# Altium footprint library Alcetronics_Devices.PcbLib: 71 footprints (part 3 of 5)
Each footprint in its own frame and in the unit in brackets; x right, y up, seen from the top. Pads: shape width x height; smd on the part's side, far side on the other; paste and mask are expansions set on the pad; w line width, h text height; cw(c..) or ccw(c..) is an arc to the next point about the centre after c.
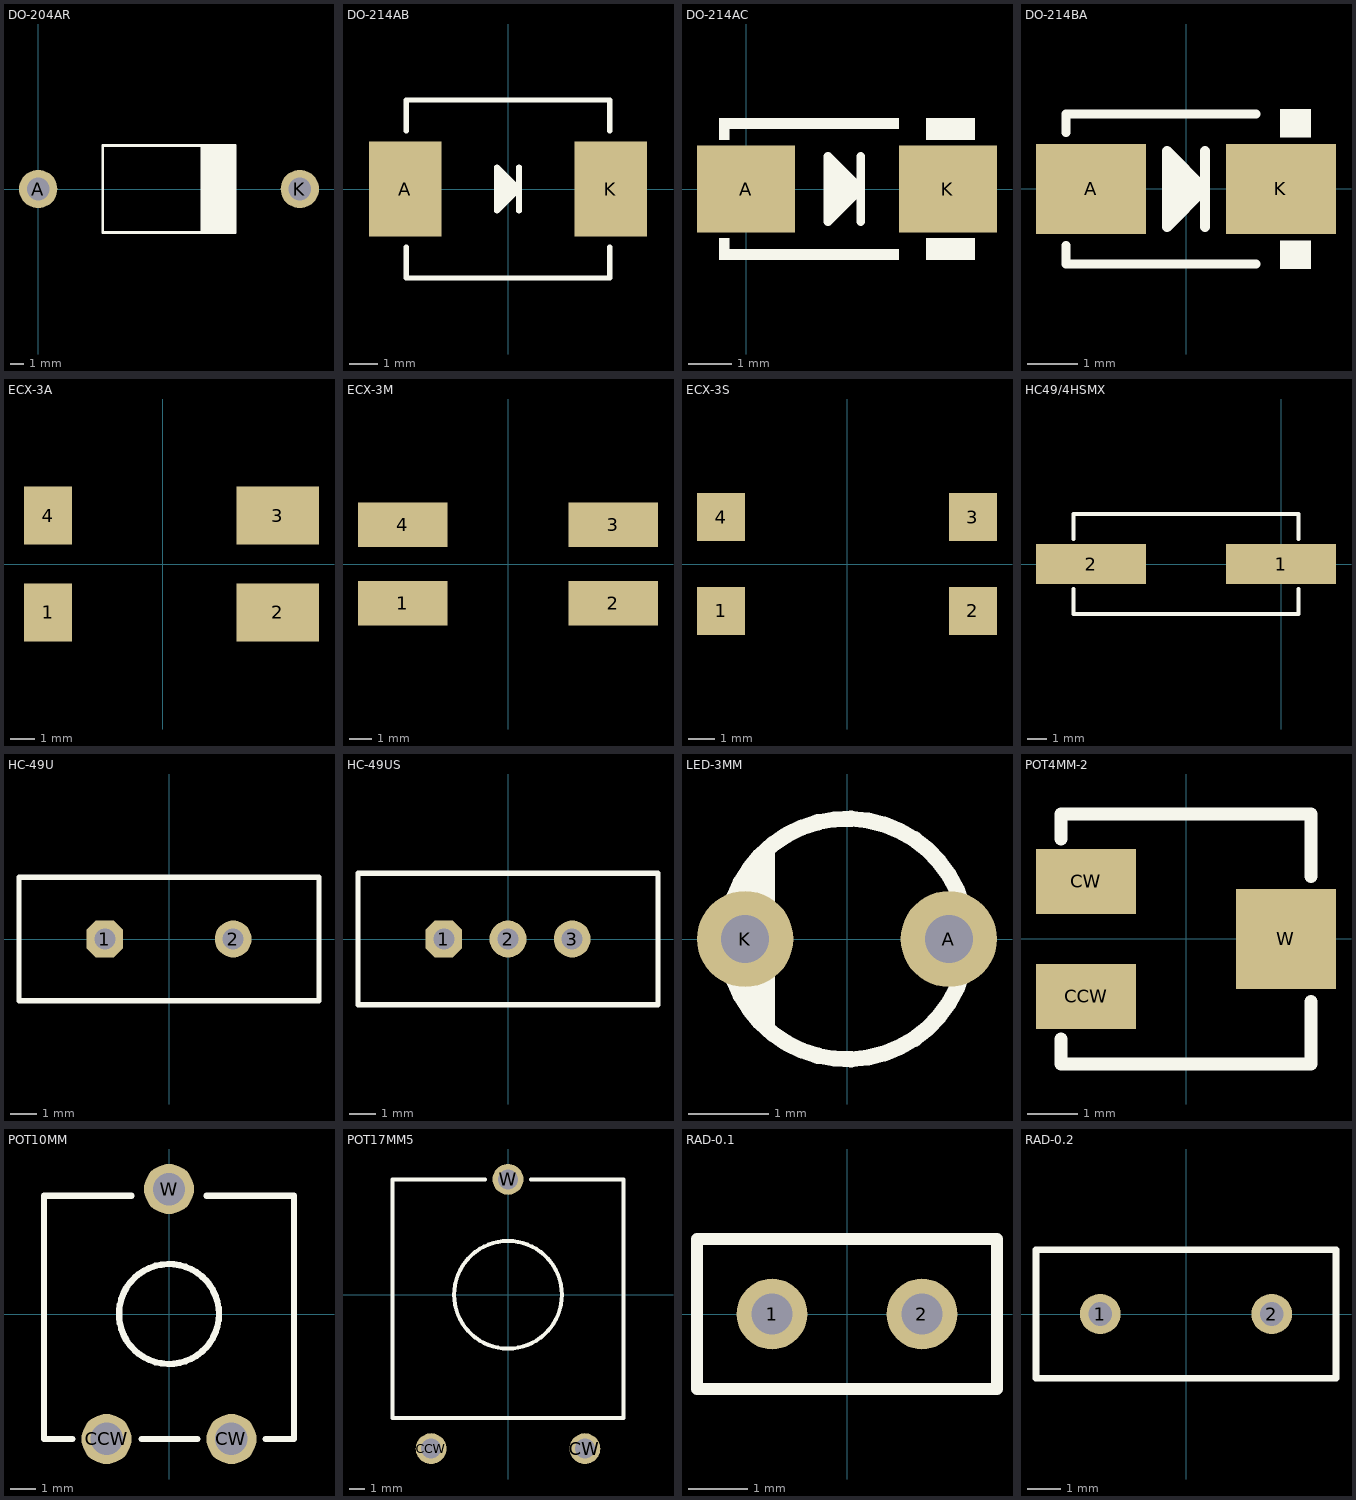
[diagram p2: the footprints below, top view; thin cyan lines are the x and y axes]

## DO-204AR [mil] "Diode, Axial; Body 9.5 x 6.4 mm (LxDia. max), Lead Dia. 1.32 mm (max)"
height 251.97
pads (2):
  round 110 hole 65: A(0,0) K(750,0)
Top Overlay:
  rectangle: 465,-125 565,125
  lines w8: 185,-125 185,125 565,125 565,-125 185,-125

## DO-214AB [mil] "Small Signal Schottky Diode"
pads (2):
  rect 100x130 smd: A(-141.34,0) K(141.34,0)
Top Overlay:
  region: -15,30 -15,-30 15,0
  lines w7: -140,-80 -140,-122.48 140,-122.5 140,-80 ; -140,80 -140,122.5 140,122.48 140,80
  lines w8: 15,-30 15,30 ; -15,-30 -15,30 15,0 -15,-30

## DO-214AC [mil]
pads (2):
  rect 90x80 smd: A(0,0) K(185,0)
Top Overlay:
  rectangle: -25,45 -15,65
  rectangle: 165,45 210,65
  rectangle: -25,-65 -15,-45
  rectangle: 165,-65 210,-45
  rectangle: -25,55 140,65
  rectangle: -25,-65 140,-55
  region: 75,30 75,-30 105,0
  lines w8: 105,-30 105,30 ; 75,-30 75,30 105,0 75,-30

## DO-214BA [mm] "Small Signal Schottky Diode"
pads (2):
  rect 2.2x1.8 smd: A(-1.9,0) K(1.9,0)
Top Overlay:
  rectangle: 1.875,1.025 2.5,1.6
  rectangle: 1.875,-1.6 2.5,-1.025
  region: -0.381,0.762 -0.381,-0.762 0.381,0
  lines w0.178: -2.4,-1.125 -2.4,-1.5 1.4,-1.5 ; -2.4,1.125 -2.4,1.5 1.4,1.5
  lines w0.203: 0.381,-0.762 0.381,0.762 ; -0.381,-0.762 -0.381,0.762 0.381,0 -0.381,-0.762

## ECX-3A [mm] "Quartz Crystal, SM; 4 Leads; Body 13 x 5 x 5 mm (LxWxH)"
height 5
pads (4):
  rect 2x2.4 smd: 1(-4.75,-2) 4(-4.75,2)
  rect 3.4x2.4 smd: 2(4.75,-2) 3(4.75,2)

## ECX-3M [mm] "Quartz Crystal, SM; 4 Leads; Body 13 x 4.7 x 4.2 mm (LxWxH)"
height 4.2
pads (4):
  rect 4x2 smd: 1(-4.7,-1.75) 2(4.7,-1.75) 3(4.7,1.75) 4(-4.7,1.75)

## ECX-3S [mm] "Quartz Crystal, SM; 4 Leads; Body 12.5 x 4.6 x 3.7 mm (LxWxH)"
height 3.7
pads (4):
  rect 1.8x1.8 smd: 1(-4.7,-1.75) 2(4.7,-1.75) 3(4.7,1.75) 4(-4.7,1.75)

## HC49/4HSMX [mil]
height 169.29
pads (2):
  rect 220x80 smd: 1(0,0) 2(-380,0)
Top Overlay:
  lines w7.87: -415,-50 -415,-100 35,-100 35,-50 ; -415,50 -415,100 35,100 35,50

## HC-49U [mm] "Quartz Crystal, Thru-Hole; 2 Leads; Body 11.35 x 4.65 x 13.46 mm (LxWxH max)"
height 13.46
pads (2):
  oct 1.4x1.4 hole 0.8: 1(-2.44,0)
  round 1.4 hole 0.8: 2(2.44,0)
Top Overlay:
  lines w0.2: -5.7,-2.35 5.7,-2.35 5.7,2.35 -5.7,2.35 -5.7,-2.35

## HC-49US [mm] "Quartz Crystal, Thru-Hole; 3 Leads; Body 11.35 x 5 x 3.5 mm (LxWxH max)"
height 3.5
pads (3):
  oct 1.4x1.4 hole 0.8: 1(-2.44,0)
  round 1.4 hole 0.8: 2(0,0) 3(2.44,0)
Top Overlay:
  lines w0.2: -5.7,-2.5 -5.7,2.5 5.7,2.5 5.7,-2.5 -5.7,-2.5

## LED-3MM [mm] "LED 3mm"
pads (2):
  round 1.2 hole 0.6: A(1.27,0) K(-1.27,0)
Top Overlay:
  circle w0.2: c0,0 r1.5
  region: -1,1.1 -1.4,0.7 -1.4,-0.7 -1,-1.1
  lines w0.2: -1,-1.1 -1,1.1

## POT4MM-2 [mm] "Square Trimming Potentiometer"
pads (3):
  rect 2x1.3 smd: CCW(-2,-1.15) CW(-2,1.15)
  rect 2x2 smd: W(2,0)
Top Overlay:
  lines w0.254: -2.5,-2 -2.5,-2.5 2.5,-2.5 2.5,-1.25 ; -2.5,2 -2.5,2.5 2.5,2.5 2.5,1.25

## POT10MM [mm] "POT 10mm"
height 6
pads (3):
  round 2 hole 1.3: CCW(-2.5,-5) CW(2.5,-5) W(0,5)
Top Overlay:
  circle w0.254: c0,0 r2
  lines w0.254: -3.875,-5 -5,-5 -5,4.725 -1.5,4.725 ; -1.1,-5 1.125,-5 ; 1.5,4.725 5,4.725 5,-5 3.875,-5

## POT17MM5 [mm] "POT 17.5mm"
height 6
pads (3):
  round 2 hole 1.3: CCW(-5,-10) CW(5,-10) W(0,7.5)
Top Overlay:
  circle w0.254: c0,0 r3.5
  lines w0.254: -1.5,7.5 -7.5,7.5 -7.5,-8 7.5,-8 7.5,7.5 1.5,7.5

## RAD-0.1 [mm] "Radial Cap, Thru-Hole; 2 Leads; 0.1 in Pin Spacing"
pads (2):
  round 1.2 hole 0.7: 1(-1.27,0) 2(1.27,0)
Top Overlay:
  lines w0.2: -2.54,-1.27 2.54,-1.27 2.54,1.27 -2.54,1.27 -2.54,-1.27

## RAD-0.2 [mm] "Radial Cap, Thru-Hole; 2 Leads; 0.2 in Pin Spacing"
pads (2):
  round 1.2 hole 0.7: 1(-2.54,0) 2(2.54,0)
Top Overlay:
  lines w0.2: -4.445,-1.905 4.445,-1.905 4.445,1.905 -4.445,1.905 -4.445,-1.905